# Altium schematic symbol library Miscellaneous.SchLib: 6 symbols
Pins are listed as number, name and electrical type; pins without a type are passive.

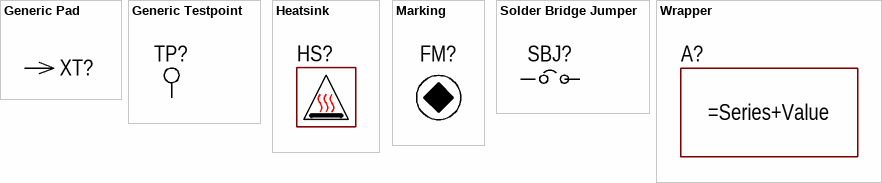
[diagram p0: symbols Generic Pad to Wrapper]

## Generic Pad
designator XT?  (value not drawn)  (net tie, no BOM)
Generic Pad Schematic Symbol
pins: 1

## Generic Testpoint
designator TP?, comment Testpoint  (value not drawn)  (no BOM)
Generic Testpoint Schematics Symbol
footprint Test_Pad (Diameter 0.8mm)
footprint Test_Hole (Diameter 0.8mm)
pins: 1

## Heatsink
designator HS?  (mechanical)
Generic Heatsink Schematic Symbol

## Marking
designator FM?  (value not drawn)  (no BOM)
Fiducial Mark

## Solder Bridge Jumper
designator SBJ?  (value not drawn)
Solder Bridge Jumper Schematic Symbol
pins: 1, 2

## Wrapper
designator A?  (no BOM)
Wrapper for Placing Mounting Holes and Ohter Component-Specific Stuff
pins: 0 hidden to GND